# Altium schematic symbol library micro-samsung.SCHLIB: 1 symbol
Pins are listed as number, name and electrical type; pins without a type are passive.

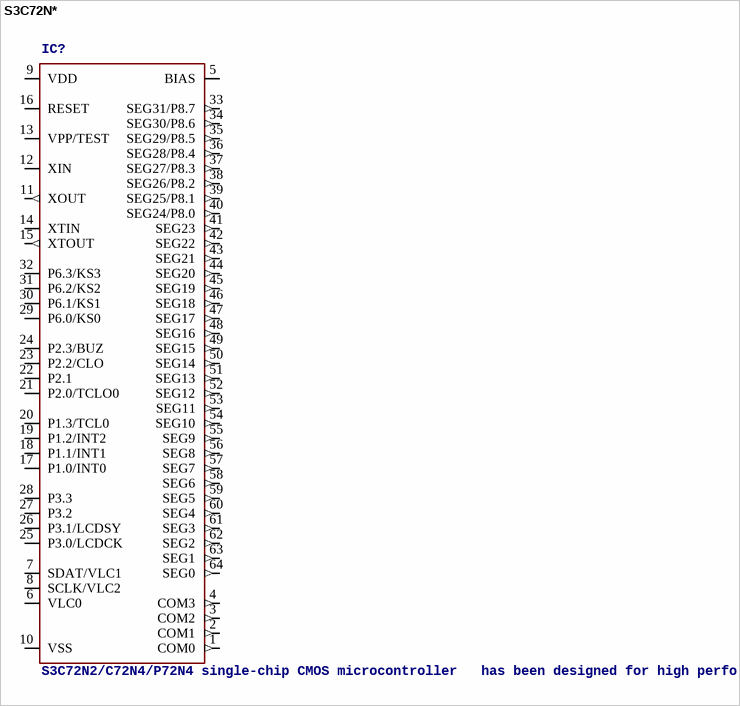
[diagram p0: symbol S3C72N*]

## S3C72N*
designator IC?, comment S3C72N2/C72N4/P72N4 single-chip CMOS microcontroller   has been designed for high performance using Samsung's newest 4-bit CPU core, SAM47 (Samsung Arrangeable Microcontrollers). Source: http://www.samsung.com/Products/Semiconductor/SystemLSI/Microcontrollers/4_bit/S3C7_KS57Series/S3C72N4/um_s3c72n2_cp72n4_v1.pdf
OC_FARNELL: unknown; OC_NEWARK: unknown
footprint 64-QFP-1420F
pins: 1 COM0 (out), 2 COM1 (out), 3 COM2 (out), 4 COM3 (out), 5 BIAS, 6 VLC0, 7 SDAT/VLC1, 8 SCLK/VLC2, 9 VDD (power), 10 VSS (power), 11 XOUT (out), 12 XIN, 13 VPP/TEST, 14 XTIN, 15 XTOUT (out), 16 RESET, 17 P1.0/INT0, 18 P1.1/INT1, 19 P1.2/INT2, 20 P1.3/TCL0, 21 P2.0/TCLO0, 22 P2.1, 23 P2.2/CLO, 24 P2.3/BUZ, 25 P3.0/LCDCK, 26 P3.1/LCDSY, 27 P3.2, 28 P3.3, 29 P6.0/KS0, 30 P6.1/KS1, 31 P6.2/KS2, 32 P6.3/KS3, 33 SEG31/P8.7 (out), 34 SEG30/P8.6 (out), 35 SEG29/P8.5 (out), 36 SEG28/P8.4 (out), 37 SEG27/P8.3 (out), 38 SEG26/P8.2 (out), 39 SEG25/P8.1 (out), 40 SEG24/P8.0 (out), 41 SEG23 (out), 42 SEG22 (out), 43 SEG21 (out), 44 SEG20 (out), 45 SEG19 (out), 46 SEG18 (out), 47 SEG17 (out), 48 SEG16 (out), 49 SEG15 (out), 50 SEG14 (out), 51 SEG13 (out), 52 SEG12 (out), 53 SEG11 (out), 54 SEG10 (out), 55 SEG9 (out), 56 SEG8 (out), 57 SEG7 (out), 58 SEG6 (out), 59 SEG5 (out), 60 SEG4 (out), 61 SEG3 (out), 62 SEG2 (out), 63 SEG1 (out), 64 SEG0 (out)